# Altium schematic symbol library LARS_409_CONNECTORS.SCHLIB: 107 symbols
Pins are listed as number, name and electrical type; pins without a type are passive.

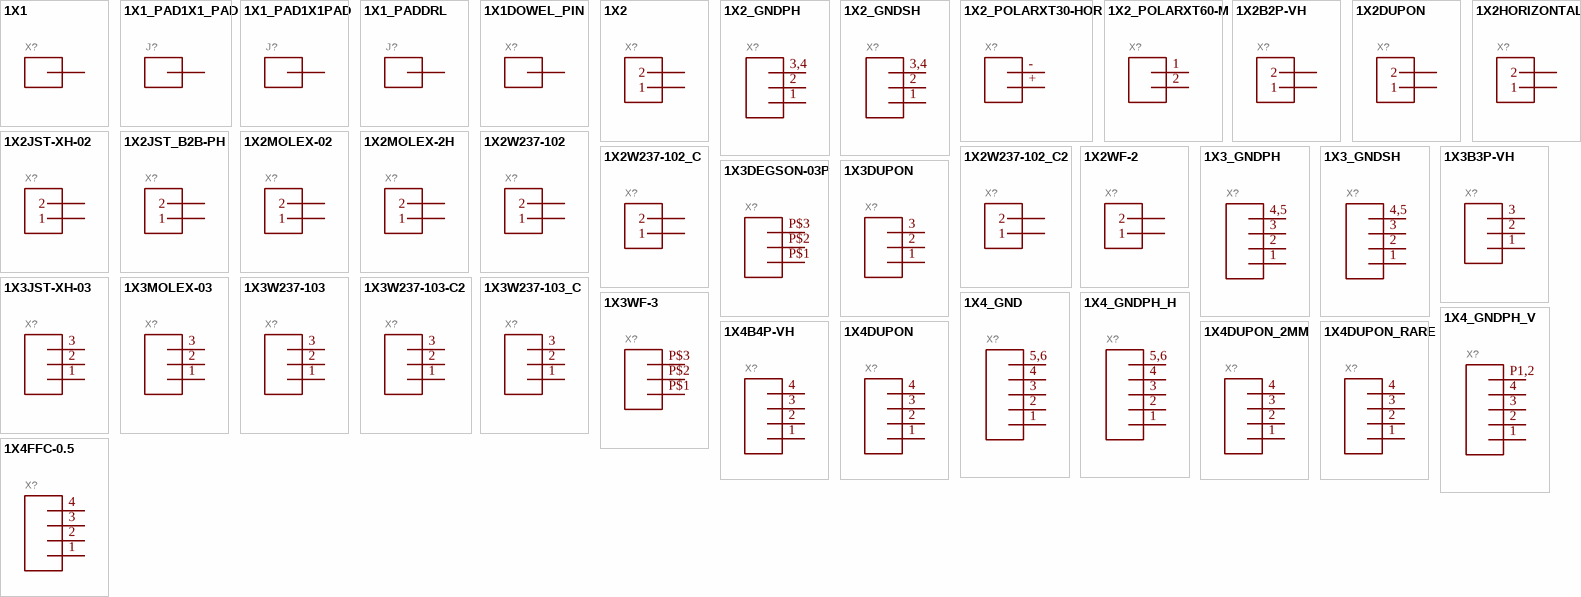
[diagram p0: symbols 1X1 to 1X4FFC-0.5]

## 1X1
designator X?
GateName_1: G$1; SymbolName_1: CONN_01; DeviceSetName: 1X1; LibraryName: LARS_409_CONNECTORS; Package: 1X01DUPON
footprint 1X01DUPON
pins: 1

## 1X1_PAD1X1_PAD
designator J?
GateName_1: >NAME; SymbolName_1: CONN_01; DeviceName: 1X1_PAD; LibraryName: LARS_409_CONNECTORS; DeviceSetName: 1X1_PAD; Package: 1X1_PAD
footprint 1X1_PAD
pins: P$1 1

## 1X1_PAD1X1PAD
designator J?
GateName_1: >NAME; SymbolName_1: CONN_01; DeviceName: 1X1PAD; DeviceSetName: 1X1_PAD; LibraryName: LARS_409_CONNECTORS; Package: 1X1_PAD_T
footprint 1X1_PAD_T
pins: P$1 1

## 1X1_PADDRL
designator J?
GateName_1: >NAME; SymbolName_1: CONN_01; DeviceName: DRL; DeviceSetName: 1X1_PAD; LibraryName: LARS_409_CONNECTORS; Package: 1X1_PAD_DRILL
footprint 1X1_PAD_DRILL
pins: P$1 1

## 1X1DOWEL_PIN
designator X?
GateName_1: G$1; SymbolName_1: CONN_01; DeviceName: DOWEL_PIN; DeviceSetName: 1X1; LibraryName: LARS_409_CONNECTORS; Package: DOWEL_PIN
footprint DOWEL_PIN
pins: P$1 1

## 1X2
designator X?
GateName_1: G$1; SymbolName_1: CONN_02; DeviceSetName: 1X2; LibraryName: LARS_409_CONNECTORS; Package: 15EDGVC-5.08-02P
footprint 15EDGVC-5.08-02P
pins: 1, 2

## 1X2_GNDPH
designator X?
GateName_1: G$1; SymbolName_1: CONN_02_JST_PH-2; DeviceName: PH; DeviceSetName: 1X2_GND; LibraryName: LARS_409_CONNECTORS; Package: JST-PH-SM2-(LF)
footprint JST-PH-SM2-(LF)
pins: 1, 2, 3,4 3

## 1X2_GNDSH
designator X?
GateName_1: G$1; SymbolName_1: CONN_02_JST_PH-2; DeviceName: SH; DeviceSetName: 1X2_GND; LibraryName: LARS_409_CONNECTORS; Package: SM02B-SRSS-TB
footprint SM02B-SRSS-TB
pins: 1, 2, 3,4 3

## 1X2_POLARXT30-HOR
designator X?
GateName_1: G$1; SymbolName_1: CONN_02_POLAR; DeviceName: XT30-HOR; DeviceSetName: 1X2_POLAR; LibraryName: LARS_409_CONNECTORS; Package: XT30_HORIZONTAL
footprint XT30_HORIZONTAL
pins: + 1, - 2

## 1X2_POLARXT60-M
designator X?
GateName_1: G$1; SymbolName_1: CONN_02_POLAR; DeviceName: XT60-M; DeviceSetName: 1X2_POLAR; LibraryName: LARS_409_CONNECTORS; Package: XT60-M
footprint XT60-M
pins: 1 2, 2 1

## 1X2B2P-VH
designator X?
GateName_1: G$1; SymbolName_1: CONN_02; DeviceName: B2P-VH; DeviceSetName: 1X2; LibraryName: LARS_409_CONNECTORS; Package: JST-B2P-VH
footprint JST-B2P-VH
pins: 1, 2

## 1X2DUPON
designator X?
GateName_1: G$1; SymbolName_1: CONN_02; DeviceName: DUPON; DeviceSetName: 1X2; LibraryName: LARS_409_CONNECTORS; Package: 1X02DUPON
footprint 1X02DUPON
pins: 1, 2

## 1X2HORIZONTAL
designator X?
GateName_1: G$1; SymbolName_1: CONN_02; DeviceName: HORIZONTAL; DeviceSetName: 1X2; LibraryName: LARS_409_CONNECTORS; Package: JST_S2B-EH(LF)(SN)
footprint JST_S2B-EH(LF)(SN)
pins: P$1 1, P$2 2

## 1X2JST-XH-02
designator X?
GateName_1: G$1; SymbolName_1: CONN_02; DeviceName: JST-XH-02; DeviceSetName: 1X2; LibraryName: LARS_409_CONNECTORS; Package: JST-XH-02
footprint JST-XH-02
pins: 1, 2

## 1X2JST_B2B-PH
designator X?
GateName_1: G$1; SymbolName_1: CONN_02; DeviceName: JST_B2B-PH; DeviceSetName: 1X2; LibraryName: LARS_409_CONNECTORS; Package: JST-PH-02
footprint JST-PH-02
pins: 1, 2

## 1X2MOLEX-02
designator X?
GateName_1: G$1; SymbolName_1: CONN_02; DeviceName: MOLEX-02; DeviceSetName: 1X2; LibraryName: LARS_409_CONNECTORS; Package: MOLEX-02
footprint MOLEX-02
pins: 1, 2

## 1X2MOLEX-2H
designator X?
GateName_1: G$1; SymbolName_1: CONN_02; DeviceName: MOLEX-2H; DeviceSetName: 1X2; LibraryName: LARS_409_CONNECTORS; Package: MOLEX-2H
footprint MOLEX-2H
pins: P$1 1, P$2 2

## 1X2W237-102
designator X?
GateName_1: G$1; SymbolName_1: CONN_02; DeviceName: W237-102; DeviceSetName: 1X2; LibraryName: LARS_409_CONNECTORS; Package: W237-102
footprint W237-102
pins: 1, 2

## 1X2W237-102_C
designator X?
GateName_1: G$1; SymbolName_1: CONN_02; DeviceName: W237-102_C; DeviceSetName: 1X2; LibraryName: LARS_409_CONNECTORS; Package: W237-102_C
footprint W237-102_C
pins: 1, 2

## 1X2W237-102_C2
designator X?
GateName_1: G$1; SymbolName_1: CONN_02; DeviceName: W237-102_C2; DeviceSetName: 1X2; LibraryName: LARS_409_CONNECTORS; Package: W237-102_C2
footprint W237-102_C2
pins: 1, 2

## 1X2WF-2
designator X?
GateName_1: G$1; SymbolName_1: CONN_02; DeviceName: WF-2; DeviceSetName: 1X2; LibraryName: LARS_409_CONNECTORS; Package: WF-2
footprint WF-2
pins: P$1 1, P$2 2

## 1X3_GNDPH
designator X?
GateName_1: G$1; SymbolName_1: CONN_03_JST_PH-2; DeviceName: PH; DeviceSetName: 1X3_GND; LibraryName: LARS_409_CONNECTORS; Package: JST-PH-SM3-(LF)
footprint JST-PH-SM3-(LF)
pins: 1, 2, 3, 4,5 4

## 1X3_GNDSH
designator X?
GateName_1: G$1; SymbolName_1: CONN_03_JST_PH-2; DeviceName: SH; DeviceSetName: 1X3_GND; LibraryName: LARS_409_CONNECTORS; Package: SM03B-SRSS-TB
footprint SM03B-SRSS-TB
pins: 1, 2, 3, 4,5 4

## 1X3B3P-VH
designator X?
GateName_1: G$1; SymbolName_1: CONN_03; DeviceName: B3P-VH; DeviceSetName: 1X3; LibraryName: LARS_409_CONNECTORS; Package: JST-B3P-VH
footprint JST-B3P-VH
pins: 1, 2, 3

## 1X3DEGSON-03P
designator X?
GateName_1: G$1; SymbolName_1: CONN_03; DeviceName: DEGSON-03P; DeviceSetName: 1X3; LibraryName: LARS_409_CONNECTORS; Package: DEGSON-03P
footprint DEGSON-03P
pins: P$1 1, P$2 2, P$3 3

## 1X3DUPON
designator X?
GateName_1: G$1; SymbolName_1: CONN_03; DeviceName: DUPON; DeviceSetName: 1X3; LibraryName: LARS_409_CONNECTORS; Package: 1X03DUPON
footprint 1X03DUPON
pins: 1, 2, 3

## 1X3JST-XH-03
designator X?
GateName_1: G$1; SymbolName_1: CONN_03; DeviceName: JST-XH-03; DeviceSetName: 1X3; LibraryName: LARS_409_CONNECTORS; Package: JST-XH-03
footprint JST-XH-03
pins: 1, 2, 3

## 1X3MOLEX-03
designator X?
GateName_1: G$1; SymbolName_1: CONN_03; DeviceName: MOLEX-03; DeviceSetName: 1X3; LibraryName: LARS_409_CONNECTORS; Package: MOLEX-03
footprint MOLEX-03
pins: 1, 2, 3

## 1X3W237-103
designator X?
GateName_1: G$1; SymbolName_1: CONN_03; DeviceName: W237-103; DeviceSetName: 1X3; LibraryName: LARS_409_CONNECTORS; Package: W237-103
footprint W237-103
pins: 1, 2, 3

## 1X3W237-103-C2
designator X?
GateName_1: G$1; SymbolName_1: CONN_03; DeviceName: W237-103-C2; DeviceSetName: 1X3; LibraryName: LARS_409_CONNECTORS; Package: W237-103_C2
footprint W237-103_C2
pins: 1, 2, 3

## 1X3W237-103_C
designator X?
GateName_1: G$1; SymbolName_1: CONN_03; DeviceName: W237-103_C; DeviceSetName: 1X3; LibraryName: LARS_409_CONNECTORS; Package: W237-103_C
footprint W237-103_C
pins: 1, 2, 3

## 1X3WF-3
designator X?
GateName_1: G$1; SymbolName_1: CONN_03; DeviceName: WF-3; DeviceSetName: 1X3; LibraryName: LARS_409_CONNECTORS; Package: WF-3
footprint WF-3
pins: P$1 1, P$2 2, P$3 3

## 1X4_GND
designator X?
GateName_1: >NAME; SymbolName_1: CONN_04_JST_PH_2; DeviceSetName: 1X4_GND; LibraryName: LARS_409_CONNECTORS; Package: SM04B-SRSS-TB
footprint SM04B-SRSS-TB
pins: 1, 2, 3, 4, 5,6 5

## 1X4_GNDPH_H
designator X?
GateName_1: >NAME; SymbolName_1: CONN_04_JST_PH_2; DeviceName: PH_H; DeviceSetName: 1X4_GND; LibraryName: LARS_409_CONNECTORS; Package: JST-PH-SM4-(LF)
footprint JST-PH-SM4-(LF)
pins: 1, 2, 3, 4, 5,6 5

## 1X4_GNDPH_V
designator X?
GateName_1: >NAME; SymbolName_1: CONN_04_JST_PH_2; DeviceName: PH_V; DeviceSetName: 1X4_GND; LibraryName: LARS_409_CONNECTORS; Package: JST-PH-SM4
footprint JST-PH-SM4
pins: 1, 2, 3, 4, P1,2 5

## 1X4B4P-VH
designator X?
GateName_1: G$1; SymbolName_1: CONN_04; DeviceName: B4P-VH; DeviceSetName: 1X4; LibraryName: LARS_409_CONNECTORS; Package: JST-B4P-VH
footprint JST-B4P-VH
pins: 1, 2, 3, 4

## 1X4DUPON
designator X?
GateName_1: G$1; SymbolName_1: CONN_04; DeviceName: DUPON; DeviceSetName: 1X4; LibraryName: LARS_409_CONNECTORS; Package: 1X04DUPON
footprint 1X04DUPON
pins: 1, 2, 3, 4

## 1X4DUPON_2MM
designator X?
GateName_1: G$1; SymbolName_1: CONN_04; DeviceName: DUPON_2MM; DeviceSetName: 1X4; LibraryName: LARS_409_CONNECTORS; Package: 1X04DUPON_2MM
footprint 1X04DUPON_2MM
pins: 1, 2, 3, 4

## 1X4DUPON_RARE
designator X?
GateName_1: G$1; SymbolName_1: CONN_04; DeviceName: DUPON_RARE; DeviceSetName: 1X4; LibraryName: LARS_409_CONNECTORS; Package: 1X04DUPON_1.27MM
footprint 1X04DUPON_1.27MM
pins: 1, 2, 3, 4

## 1X4FFC-0.5
designator X?
GateName_1: G$1; SymbolName_1: CONN_04; DeviceName: FFC-0.5; DeviceSetName: 1X4; LibraryName: LARS_409_CONNECTORS; Package: FFC-0.5MM_4
footprint FFC-0.5MM_4
pins: 1, 2, 3, 4

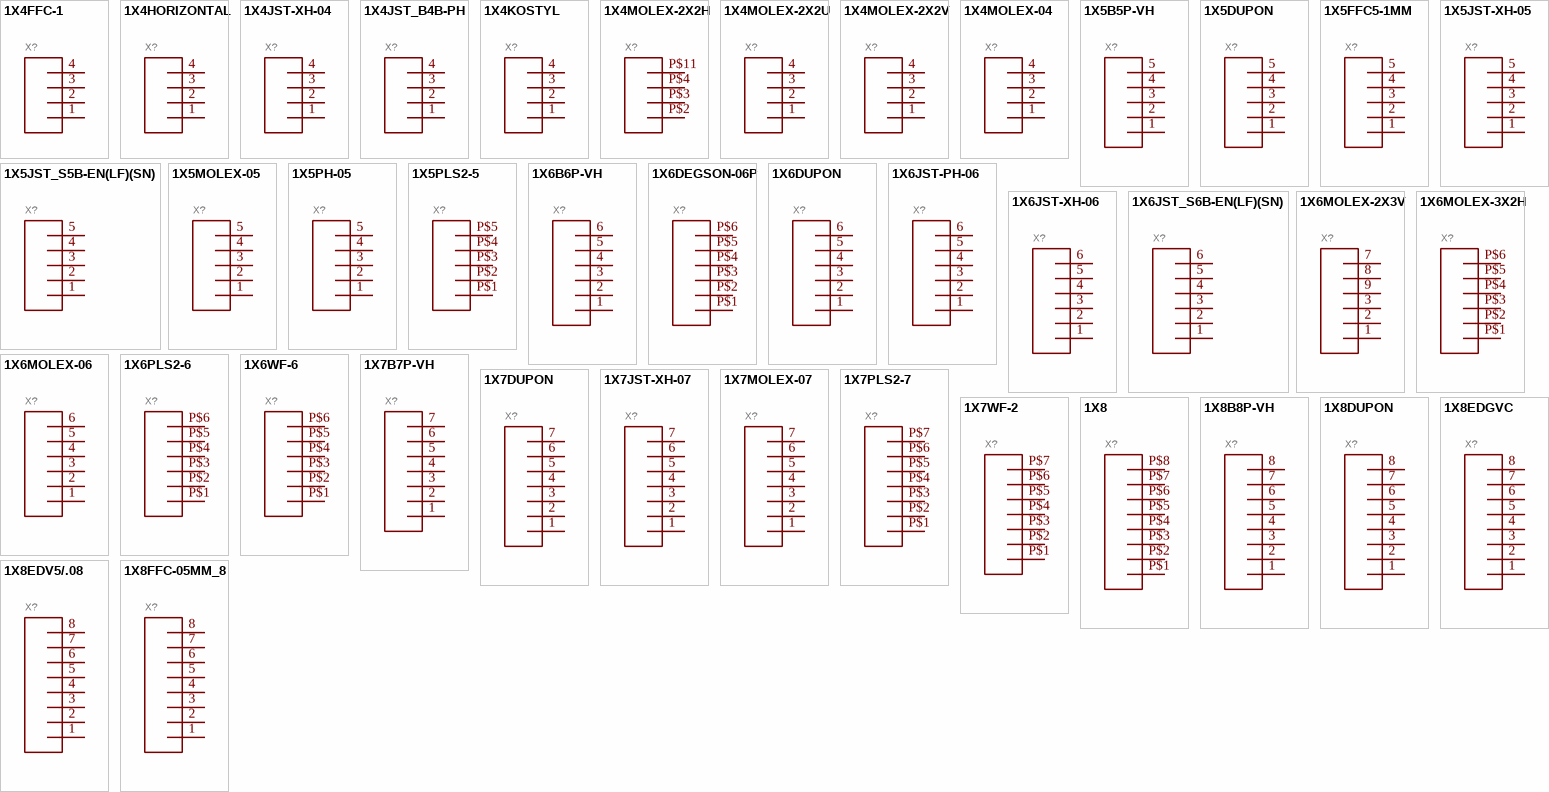
[diagram p1: symbols 1X4FFC-1 to 1X8FFC-05MM_8]

## 1X4FFC-1
designator X?
GateName_1: G$1; SymbolName_1: CONN_04; DeviceName: FFC-1; DeviceSetName: 1X4; LibraryName: LARS_409_CONNECTORS; Package: FFC-1MM_4
footprint FFC-1MM_4
pins: 1, 2, 3, 4

## 1X4HORIZONTAL
designator X?
GateName_1: G$1; SymbolName_1: CONN_04; DeviceName: HORIZONTAL; DeviceSetName: 1X4; LibraryName: LARS_409_CONNECTORS; Package: JST_S4B-EN(LF)(SN)
footprint JST_S4B-EN(LF)(SN)
pins: 1, 2, 3, 4

## 1X4JST-XH-04
designator X?
GateName_1: G$1; SymbolName_1: CONN_04; DeviceName: JST-XH-04; DeviceSetName: 1X4; LibraryName: LARS_409_CONNECTORS; Package: JST-XH-04
footprint JST-XH-04
pins: 1, 2, 3, 4

## 1X4JST_B4B-PH
designator X?
GateName_1: G$1; SymbolName_1: CONN_04; DeviceName: JST_B4B-PH; DeviceSetName: 1X4; LibraryName: LARS_409_CONNECTORS; Package: JST-PH-04
footprint JST-PH-04
pins: 1, 2, 3, 4

## 1X4KOSTYL
designator X?
GateName_1: G$1; SymbolName_1: CONN_04; DeviceName: KOSTYL; DeviceSetName: 1X4; LibraryName: LARS_409_CONNECTORS; Package: 1X04DUPON_ANGLE
footprint 1X04DUPON_ANGLE
pins: 1, 2, 3, 4

## 1X4MOLEX-2X2H
designator X?
GateName_1: G$1; SymbolName_1: CONN_04; DeviceName: MOLEX-2X2H; DeviceSetName: 1X4; LibraryName: LARS_409_CONNECTORS; Package: MOLEX-2X2H
footprint MOLEX-2X2H
pins: P$2 1, P$3 2, P$4 3, P$11 4

## 1X4MOLEX-2X2U
designator X?
GateName_1: G$1; SymbolName_1: CONN_04; DeviceName: MOLEX-2X2U; DeviceSetName: 1X4; LibraryName: LARS_409_CONNECTORS; Package: MOLEX-2X2U
footprint MOLEX-2X2U
pins: 1, 2, 3, 4

## 1X4MOLEX-2X2V
designator X?
GateName_1: G$1; SymbolName_1: CONN_04; DeviceName: MOLEX-2X2V; DeviceSetName: 1X4; LibraryName: LARS_409_CONNECTORS; Package: MOLEX-2X2V
footprint MOLEX-2X2V
pins: 1, 2, 3, 4

## 1X4MOLEX-04
designator X?
GateName_1: G$1; SymbolName_1: CONN_04; DeviceName: MOLEX-04; DeviceSetName: 1X4; LibraryName: LARS_409_CONNECTORS; Package: MOLEX-04
footprint MOLEX-04
pins: 1, 2, 3, 4

## 1X5B5P-VH
designator X?
GateName_1: G$1; SymbolName_1: CONN_05; DeviceName: B5P-VH; DeviceSetName: 1X5; LibraryName: LARS_409_CONNECTORS; Package: JST-B5P-VH
footprint JST-B5P-VH
pins: 1, 2, 3, 4, 5

## 1X5DUPON
designator X?
GateName_1: G$1; SymbolName_1: CONN_05; DeviceName: DUPON; DeviceSetName: 1X5; LibraryName: LARS_409_CONNECTORS; Package: 1X05DUPON
footprint 1X05DUPON
pins: 1, 2, 3, 4, 5

## 1X5FFC5-1MM
designator X?
GateName_1: G$1; SymbolName_1: CONN_05; DeviceName: FFC5-1MM; DeviceSetName: 1X5; LibraryName: LARS_409_CONNECTORS; Package: FFC-1MM_5
footprint FFC-1MM_5
pins: 1, 2, 3, 4, 5

## 1X5JST-XH-05
designator X?
GateName_1: G$1; SymbolName_1: CONN_05; DeviceName: JST-XH-05; DeviceSetName: 1X5; LibraryName: LARS_409_CONNECTORS; Package: JST-XH-05
footprint JST-XH-05
pins: 1, 2, 3, 4, 5

## 1X5JST_S5B-EN(LF)(SN)
designator X?
GateName_1: G$1; SymbolName_1: CONN_05; DeviceName: JST_S5B-EN(LF)(SN); DeviceSetName: 1X5; LibraryName: LARS_409_CONNECTORS; Package: JST_S5B-EN(LF)(SN)
footprint JST_S5B-EN(LF)(SN)
pins: 1, 2, 3, 4, 5

## 1X5MOLEX-05
designator X?
GateName_1: G$1; SymbolName_1: CONN_05; DeviceName: MOLEX-05; DeviceSetName: 1X5; LibraryName: LARS_409_CONNECTORS; Package: MOLEX-05
footprint MOLEX-05
pins: 1, 2, 3, 4, 5

## 1X5PH-05
designator X?
GateName_1: G$1; SymbolName_1: CONN_05; DeviceName: PH-05; DeviceSetName: 1X5; LibraryName: LARS_409_CONNECTORS; Package: JST-PH-05
footprint JST-PH-05
pins: 1, 2, 3, 4, 5

## 1X5PLS2-5
designator X?
GateName_1: G$1; SymbolName_1: CONN_05; DeviceName: PLS2-5; DeviceSetName: 1X5; LibraryName: LARS_409_CONNECTORS; Package: PLS2-5
footprint PLS2-5
pins: P$1 1, P$2 2, P$3 3, P$4 4, P$5 5

## 1X6B6P-VH
designator X?
GateName_1: G$1; SymbolName_1: CONN_06; DeviceName: B6P-VH; DeviceSetName: 1X6; LibraryName: LARS_409_CONNECTORS; Package: JST-B6P-VH
footprint JST-B6P-VH
pins: 1, 2, 3, 4, 5, 6

## 1X6DEGSON-06P
designator X?
GateName_1: G$1; SymbolName_1: CONN_06; DeviceName: DEGSON-06P; DeviceSetName: 1X6; LibraryName: LARS_409_CONNECTORS; Package: DEGSON-06P
footprint DEGSON-06P
pins: P$1 1, P$2 2, P$3 3, P$4 4, P$5 5, P$6 6

## 1X6DUPON
designator X?
GateName_1: G$1; SymbolName_1: CONN_06; DeviceName: DUPON; DeviceSetName: 1X6; LibraryName: LARS_409_CONNECTORS; Package: 1X06DUPON
footprint 1X06DUPON
pins: 1, 2, 3, 4, 5, 6

## 1X6JST-PH-06
designator X?
GateName_1: G$1; SymbolName_1: CONN_06; DeviceName: JST-PH-06; DeviceSetName: 1X6; LibraryName: LARS_409_CONNECTORS; Package: JST-PH-06
footprint JST-PH-06
pins: 1, 2, 3, 4, 5, 6

## 1X6JST-XH-06
designator X?
GateName_1: G$1; SymbolName_1: CONN_06; DeviceName: JST-XH-06; DeviceSetName: 1X6; LibraryName: LARS_409_CONNECTORS; Package: JST-XH-06
footprint JST-XH-06
pins: 1, 2, 3, 4, 5, 6

## 1X6JST_S6B-EN(LF)(SN)
designator X?
GateName_1: G$1; SymbolName_1: CONN_06; DeviceName: JST_S6B-EN(LF)(SN); DeviceSetName: 1X6; LibraryName: LARS_409_CONNECTORS; Package: JST_S6B-EH(LF)(SN)
footprint JST_S6B-EH(LF)(SN)
pins: 1, 2, 3, 4, 5, 6

## 1X6MOLEX-2X3V
designator X?
GateName_1: G$1; SymbolName_1: CONN_06; DeviceName: MOLEX-2X3V; DeviceSetName: 1X6; LibraryName: LARS_409_CONNECTORS; Package: MOLEX-2X3V
footprint MOLEX-2X3V
pins: 1, 2, 3, 7 6, 8 5, 9 4

## 1X6MOLEX-3X2H
designator X?
GateName_1: G$1; SymbolName_1: CONN_06; DeviceName: MOLEX-3X2H; DeviceSetName: 1X6; LibraryName: LARS_409_CONNECTORS; Package: MOLEX-2X3H
footprint MOLEX-2X3H
pins: P$1 1, P$2 2, P$3 3, P$4 4, P$5 5, P$6 6

## 1X6MOLEX-06
designator X?
GateName_1: G$1; SymbolName_1: CONN_06; DeviceName: MOLEX-06; DeviceSetName: 1X6; LibraryName: LARS_409_CONNECTORS; Package: MOLEX-06
footprint MOLEX-06
pins: 1, 2, 3, 4, 5, 6

## 1X6PLS2-6
designator X?
GateName_1: G$1; SymbolName_1: CONN_06; DeviceName: PLS2-6; DeviceSetName: 1X6; LibraryName: LARS_409_CONNECTORS; Package: PLS2-6
footprint PLS2-6
pins: P$1 1, P$2 2, P$3 3, P$4 4, P$5 5, P$6 6

## 1X6WF-6
designator X?
GateName_1: G$1; SymbolName_1: CONN_06; DeviceName: WF-6; DeviceSetName: 1X6; LibraryName: LARS_409_CONNECTORS; Package: WF-6
footprint WF-6
pins: P$1 1, P$2 2, P$3 3, P$4 4, P$5 5, P$6 6

## 1X7B7P-VH
designator X?
GateName_1: G$1; SymbolName_1: CONN_07; DeviceName: B7P-VH; DeviceSetName: 1X7; LibraryName: LARS_409_CONNECTORS; Package: JST-B7P-VH
footprint JST-B7P-VH
pins: 1, 2, 3, 4, 5, 6, 7

## 1X7DUPON
designator X?
GateName_1: G$1; SymbolName_1: CONN_07; DeviceName: DUPON; DeviceSetName: 1X7; LibraryName: LARS_409_CONNECTORS; Package: 1X07DUPON
footprint 1X07DUPON
pins: 1, 2, 3, 4, 5, 6, 7

## 1X7JST-XH-07
designator X?
GateName_1: G$1; SymbolName_1: CONN_07; DeviceName: JST-XH-07; DeviceSetName: 1X7; LibraryName: LARS_409_CONNECTORS; Package: JST-XH-07
footprint JST-XH-07
pins: 1, 2, 3, 4, 5, 6, 7

## 1X7MOLEX-07
designator X?
GateName_1: G$1; SymbolName_1: CONN_07; DeviceName: MOLEX-07; DeviceSetName: 1X7; LibraryName: LARS_409_CONNECTORS; Package: MOLEX-07
footprint MOLEX-07
pins: 1, 2, 3, 4, 5, 6, 7

## 1X7PLS2-7
designator X?
GateName_1: G$1; SymbolName_1: CONN_07; DeviceName: PLS2-7; DeviceSetName: 1X7; LibraryName: LARS_409_CONNECTORS; Package: PLS2-7
footprint PLS2-7
pins: P$1 1, P$2 2, P$3 3, P$4 4, P$5 5, P$6 6, P$7 7

## 1X7WF-2
designator X?
GateName_1: G$1; SymbolName_1: CONN_07; DeviceName: WF-2; DeviceSetName: 1X7; LibraryName: LARS_409_CONNECTORS; Package: WF-7
footprint WF-7
pins: P$1 1, P$2 2, P$3 3, P$4 4, P$5 5, P$6 6, P$7 7

## 1X8
designator X?
GateName_1: G$1; SymbolName_1: CONN_08; DeviceSetName: 1X8; LibraryName: LARS_409_CONNECTORS; Package: WF-8
footprint WF-8
pins: P$1 1, P$2 2, P$3 3, P$4 4, P$5 5, P$6 6, P$7 7, P$8 8

## 1X8B8P-VH
designator X?
GateName_1: G$1; SymbolName_1: CONN_08; DeviceName: B8P-VH; DeviceSetName: 1X8; LibraryName: LARS_409_CONNECTORS; Package: JST-B8P-VH
footprint JST-B8P-VH
pins: 1, 2, 3, 4, 5, 6, 7, 8

## 1X8DUPON
designator X?
GateName_1: G$1; SymbolName_1: CONN_08; DeviceName: DUPON; DeviceSetName: 1X8; LibraryName: LARS_409_CONNECTORS; Package: 1X08DUPON
footprint 1X08DUPON
pins: 1, 2, 3, 4, 5, 6, 7, 8

## 1X8EDGVC
designator X?
GateName_1: G$1; SymbolName_1: CONN_08; DeviceName: EDGVC; DeviceSetName: 1X8; LibraryName: LARS_409_CONNECTORS; Package: 15EDGVC-3.5-8P
footprint 15EDGVC-3.5-8P
pins: 1, 2, 3, 4, 5, 6, 7, 8

## 1X8EDV5/.08
designator X?
GateName_1: G$1; SymbolName_1: CONN_08; DeviceName: EDV5/.08; DeviceSetName: 1X8; LibraryName: LARS_409_CONNECTORS; Package: 15EDGVC-5.08-08P
footprint 15EDGVC-5.08-08P
pins: 1, 2, 3, 4, 5, 6, 7, 8

## 1X8FFC-05MM_8
designator X?
GateName_1: G$1; SymbolName_1: CONN_08; DeviceName: FFC-05MM_8; DeviceSetName: 1X8; LibraryName: LARS_409_CONNECTORS; Package: FFC-0.5MM_8
footprint FFC-0.5MM_8
pins: 1, 2, 3, 4, 5, 6, 7, 8

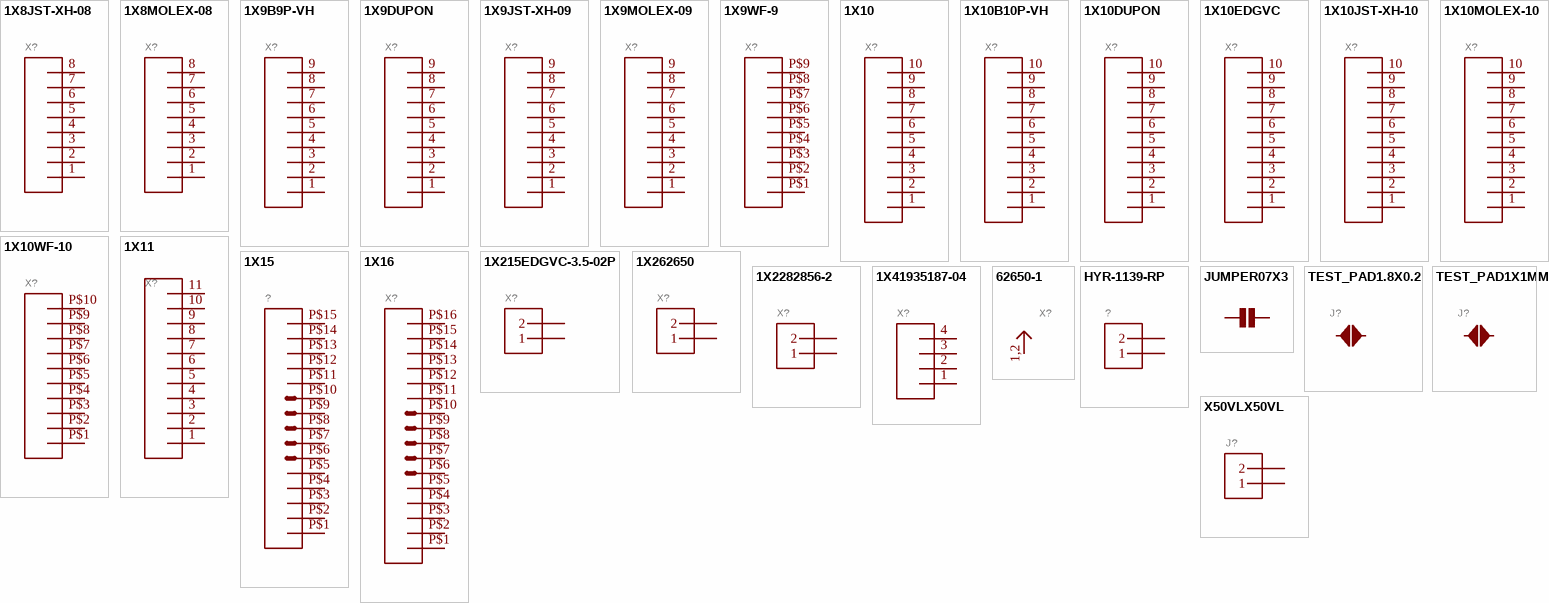
[diagram p2: symbols 1X8JST-XH-08 to X50VLX50VL]

## 1X8JST-XH-08
designator X?
GateName_1: G$1; SymbolName_1: CONN_08; DeviceName: JST-XH-08; DeviceSetName: 1X8; LibraryName: LARS_409_CONNECTORS; Package: JST-XH-08
footprint JST-XH-08
pins: 1, 2, 3, 4, 5, 6, 7, 8

## 1X8MOLEX-08
designator X?
GateName_1: G$1; SymbolName_1: CONN_08; DeviceName: MOLEX-08; DeviceSetName: 1X8; LibraryName: LARS_409_CONNECTORS; Package: MOLEX-08
footprint MOLEX-08
pins: 1, 2, 3, 4, 5, 6, 7, 8

## 1X9B9P-VH
designator X?
GateName_1: G$1; SymbolName_1: CONN_09; DeviceName: B9P-VH; DeviceSetName: 1X9; LibraryName: LARS_409_CONNECTORS; Package: JST-B9P-VH
footprint JST-B9P-VH
pins: 1, 2, 3, 4, 5, 6, 7, 8, 9

## 1X9DUPON
designator X?
GateName_1: G$1; SymbolName_1: CONN_09; DeviceName: DUPON; DeviceSetName: 1X9; LibraryName: LARS_409_CONNECTORS; Package: 1X09DUPON
footprint 1X09DUPON
pins: 1, 2, 3, 4, 5, 6, 7, 8, 9

## 1X9JST-XH-09
designator X?
GateName_1: G$1; SymbolName_1: CONN_09; DeviceName: JST-XH-09; DeviceSetName: 1X9; LibraryName: LARS_409_CONNECTORS; Package: JST-XH-09
footprint JST-XH-09
pins: 1, 2, 3, 4, 5, 6, 7, 8, 9

## 1X9MOLEX-09
designator X?
GateName_1: G$1; SymbolName_1: CONN_09; DeviceName: MOLEX-09; DeviceSetName: 1X9; LibraryName: LARS_409_CONNECTORS; Package: MOLEX-09
footprint MOLEX-09
pins: 1, 2, 3, 4, 5, 6, 7, 8, 9

## 1X9WF-9
designator X?
GateName_1: G$1; SymbolName_1: CONN_09; DeviceName: WF-9; DeviceSetName: 1X9; LibraryName: LARS_409_CONNECTORS; Package: WF-9
footprint WF-9
pins: P$1 1, P$2 2, P$3 3, P$4 4, P$5 5, P$6 6, P$7 7, P$8 8, P$9 9

## 1X10
designator X?
GateName_1: G$1; SymbolName_1: CONN_10; DeviceSetName: 1X10; LibraryName: LARS_409_CONNECTORS; Package: 15EDGVC-5.08-10P
footprint 15EDGVC-5.08-10P
pins: 1, 2, 3, 4, 5, 6, 7, 8, 9, 10

## 1X10B10P-VH
designator X?
GateName_1: G$1; SymbolName_1: CONN_10; DeviceName: B10P-VH; DeviceSetName: 1X10; LibraryName: LARS_409_CONNECTORS; Package: JST-B10P-VH
footprint JST-B10P-VH
pins: 1, 2, 3, 4, 5, 6, 7, 8, 9, 10

## 1X10DUPON
designator X?
GateName_1: G$1; SymbolName_1: CONN_10; DeviceName: DUPON; DeviceSetName: 1X10; LibraryName: LARS_409_CONNECTORS; Package: 1X10DUPON
footprint 1X10DUPON
pins: 1, 2, 3, 4, 5, 6, 7, 8, 9, 10

## 1X10EDGVC
designator X?
GateName_1: G$1; SymbolName_1: CONN_10; DeviceName: EDGVC; DeviceSetName: 1X10; LibraryName: LARS_409_CONNECTORS; Package: 15EDGVC-3.5-10P
footprint 15EDGVC-3.5-10P
pins: 1, 2, 3, 4, 5, 6, 7, 8, 9, 10

## 1X10JST-XH-10
designator X?
GateName_1: G$1; SymbolName_1: CONN_10; DeviceName: JST-XH-10; DeviceSetName: 1X10; LibraryName: LARS_409_CONNECTORS; Package: JST-XH-10
footprint JST-XH-10
pins: 1, 2, 3, 4, 5, 6, 7, 8, 9, 10

## 1X10MOLEX-10
designator X?
GateName_1: G$1; SymbolName_1: CONN_10; DeviceName: MOLEX-10; DeviceSetName: 1X10; LibraryName: LARS_409_CONNECTORS; Package: MOLEX-10
footprint MOLEX-10
pins: 1, 2, 3, 4, 5, 6, 7, 8, 9, 10

## 1X10WF-10
designator X?
GateName_1: G$1; SymbolName_1: CONN_10; DeviceName: WF-10; DeviceSetName: 1X10; LibraryName: LARS_409_CONNECTORS; Package: WF-10
footprint WF-10
pins: P$1 1, P$2 2, P$3 3, P$4 4, P$5 5, P$6 6, P$7 7, P$8 8, P$9 9, P$10 10

## 1X11
designator X?
GateName_1: G$1; SymbolName_1: CONN_11; DeviceSetName: 1X11; LibraryName: LARS_409_CONNECTORS; Package: 1X11DUPON
footprint 1X11DUPON
pins: 1, 2, 3, 4, 5, 6, 7, 8, 9, 10, 11

## 1X15
designator ?
GateName_1: G$1; SymbolName_1: CONN_15; DeviceSetName: 1X15; LibraryName: LARS_409_CONNECTORS; Package: WF-15
footprint WF-15
pins: P$1 1, P$2 2, P$3 3, P$4 4, P$5 5, P$6 6, P$7 7, P$8 8, P$9 9, P$10 10, P$11 11, P$12 12, P$13 13, P$14 14, P$15 15

## 1X16
designator X?
GateName_1: G$1; SymbolName_1: CONN_16; DeviceSetName: 1X16; LibraryName: LARS_409_CONNECTORS; Package: WF-16
footprint WF-16
pins: P$1 1, P$2 2, P$3 3, P$4 4, P$5 5, P$6 6, P$7 7, P$8 8, P$9 9, P$10 10, P$11 11, P$12 12, P$13 13, P$14 14, P$15 15, P$16 16

## 1X215EDGVC-3.5-02P
designator X?
GateName_1: G$1; SymbolName_1: CONN_02; DeviceName: 15EDGVC-3.5-02P; DeviceSetName: 1X2; LibraryName: LARS_409_CONNECTORS; Package: 15EDGVC-3.5-02P
footprint 15EDGVC-3.5-02P
pins: 1 2, 2 1

## 1X262650
designator X?
GateName_1: G$1; SymbolName_1: CONN_02; DeviceName: 62650; DeviceSetName: 1X2; LibraryName: LARS_409_CONNECTORS; Package: 62650-1
footprint 62650-1
pins: 1, 2

## 1X2282856-2
designator X?
GateName_1: G$1; SymbolName_1: CONN_02; DeviceName: 282856-2; DeviceSetName: 1X2; LibraryName: LARS_409_CONNECTORS; Package: 282856-2
footprint 282856-2
pins: 1, 2

## 1X41935187-04
designator X?
GateName_1: G$1; SymbolName_1: CONN_04; DeviceName: 1935187-04; DeviceSetName: 1X4; LibraryName: LARS_409_CONNECTORS; Package: 1935187
footprint 1935187
pins: 1, 2, 3, 4

## 62650-1
designator X?
GateName_1: G$1; SymbolName_1: CONN_1; DeviceSetName: 62650-1; LibraryName: LARS_409_CONNECTORS; Package: 62650-1
footprint 62650-1
pins: 1,2 1

## HYR-1139-RP
designator ?
GateName_1: G$1; SymbolName_1: CONN_02; DeviceSetName: HYR-1139-RP; LibraryName: LARS_409_CONNECTORS; Package: HYR-1139-RP
footprint HYR-1139-RP
pins: P$1 1, P$2,3,5,6 2

## JUMPER07X3
designator ?
GateName_1: G$1; SymbolName_1: JUMPER; DeviceName: 07X3; LibraryName: LARS_409_CONNECTORS; DeviceSetName: JUMPER; Package: 07X3
footprint 07X3
pins: P$1 (io), P$2 (io)

## TEST_PAD1.8X0.2
designator J?
GateName_1: G$1; SymbolName_1: TEST_PAD; DeviceName: 1.8X0.2; LibraryName: LARS_409_CONNECTORS; DeviceSetName: TEST_PAD; Package: BREAK_WIRE
footprint BREAK_WIRE
pins: P$1 (io), P$2 (io)

## TEST_PAD1X1MM
designator J?
GateName_1: G$1; SymbolName_1: TEST_PAD; DeviceName: 1X1MM; LibraryName: LARS_409_CONNECTORS; DeviceSetName: TEST_PAD; Package: TEST_PAD
footprint TEST_PAD
pins: P$1 (io), P$2 (io)

## X50VLX50VL
designator J?
GateName_1: G$1; SymbolName_1: CONN_02; DeviceName: X50VL; LibraryName: LARS_409_CONNECTORS; DeviceSetName: X50VL; Package: X50VL
footprint X50VL
pins: 1, 2-6 2